# EAGLE library part JOYSTICK_JACK_ALT (library atari)
Joystick Jack
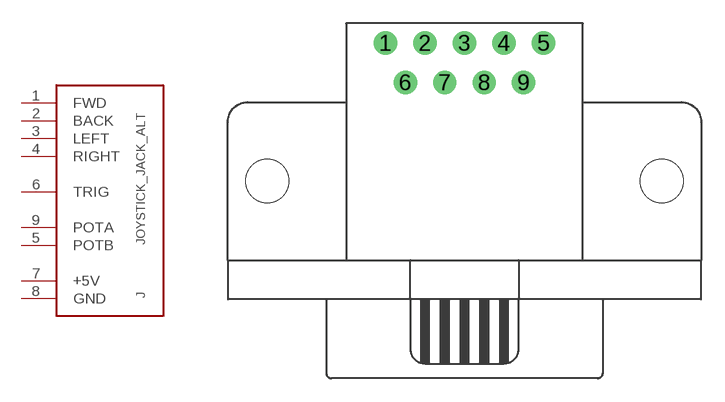
[diagram p25: symbol with the pads of JOYSTICK_JACK; footprint JOYSTICK_JACK]

Designator prefix J

## JOYSTICK_JACK_ALT  [JOYSTICK_JACK]
1  FWD
2  BACK
3  LEFT
4  RIGHT
5  POTB  out
6  TRIG  out
7  +5V  pwr
8  GND  pwr
9  POTA  out

## Footprint JOYSTICK_JACK (pad centres in mm)
Joystick Jack
drill 1 round: 1 -5.08,8.89; 2 -2.54,8.89; 3 0,8.89; 4 2.54,8.89; 5 5.08,8.89; 6 -3.81,6.35; 7 -1.27,6.35; 8 1.27,6.35; 9 3.81,6.35
hole 2.8 at -12.7,0
hole 2.8 at 12.7,0